# EAGLE library part M20-8891045 (library con-custom)
Headers & Wire Housings 10 WAY SIL HORIZ SMT P/HDR Source: Datasheet <https://cdn.harwin.com/pdfs/M20-889.pdf>
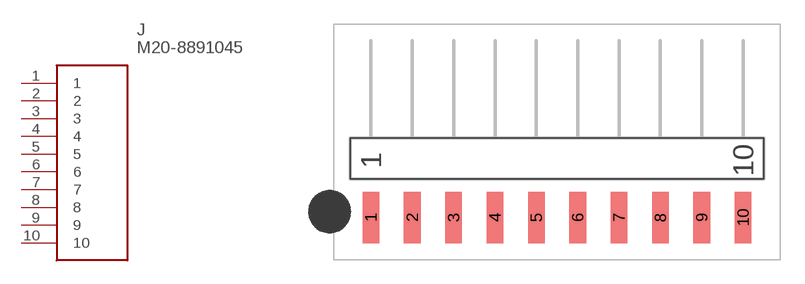
[diagram p9: symbol with the pads of M208891045; footprint M208891045]

Designator prefix J

## M20-8891045 (DESCRIPTION: Headers & Wire Housings 10 WAY SIL HORIZ SMT P/HDR; HEIGHT: 2.65mm; MANUFACTURER_NAME: Harwin; MANUFACTURER_PART_NUMBER: M20-8891045; MOUSER_PART_NUMBER: 855-M20-8891045; MOUSER_PRICE-STOCK: https://www.mouser.co.uk/ProductDetail/Harwin/M20-8891045?qs=k41KVqW3ymoWRIXfp5Ho2g%3D%3D)  [M208891045]
1  1
2  2
3  3
4  4
5  5
6  6
7  7
8  8
9  9
10  10

## Footprint M208891045 (pad centres in mm)
M20-8891045-2
smd 1.02 x 3.17: 1 -11.43,-5.443; 2 -8.89,-5.443; 3 -6.35,-5.443; 4 -3.81,-5.443; 5 -1.27,-5.443; 6 1.27,-5.443; 7 3.81,-5.443; 8 6.35,-5.443; 9 8.89,-5.443; 10 11.43,-5.443